# EAGLE library part M20-9980545 (library SamacSys_Parts)
M20 Header, Pin, Dil, Vertical, 5+5 W HARWIN M20 Series, 2.54mm Pitch 10 Way 2 Row Straight Pin Header, Through Hole, Solder Termination Source: Datasheet <https://componentsearchengine.com/Datasheets/2/M20-9980545.pdf>
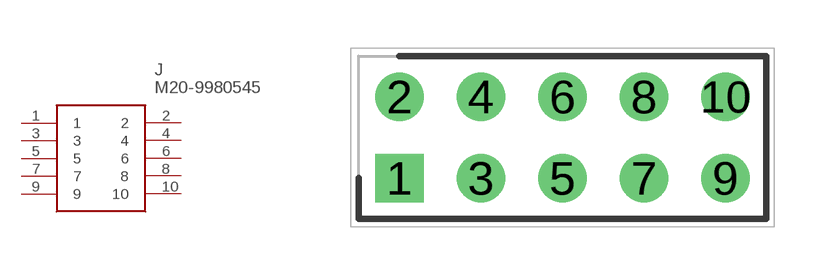
[diagram p0: symbol with the pads of HDRV10W80P254_2X5_1270X508X864; footprint HDRV10W80P254_2X5_1270X508X864]

Designator prefix J

## M20-9980545 (ARROW_PART_NUMBER: M20-9980545; DESCRIPTION: M20 Header, Pin, Dil, Vertical, 5+5 W HARWIN M20 Series, 2.54mm Pitch 10 Way 2 Row Straight Pin Header, Through Hole, Solder Termination; HEIGHT: 8.64mm; MANUFACTURER_NAME: Harwin; MANUFACTURER_PART_NUMBER: M20-9980545; MOUSER_PART_NUMBER: 855-M20-9980545; MOUSER_PRICE-STOCK: https://www.mouser.co.uk/ProductDetail/Harwin/M20-9980545?qs=%252Bk6%2F5FB6qrlY8xJEYbERXQ%3D%3D)  [HDRV10W80P254_2X5_1270X508X864]
1  1
2  2
3  3
4  4
5  5
6  6
7  7
8  8
9  9
10  10

## Footprint HDRV10W80P254_2X5_1270X508X864 (pad centres in mm)
M20-9980545
drill 1 pad 1.5 square: 1 0,0
drill 1 pad 1.5: 2 0,2.54; 3 2.54,0; 4 2.54,2.54; 5 5.08,0; 6 5.08,2.54; 7 7.62,0; 8 7.62,2.54; 9 10.16,0; 10 10.16,2.54